# EAGLE library part PREC070F03X2R90 (library con-pinheader-precision)
female precision header
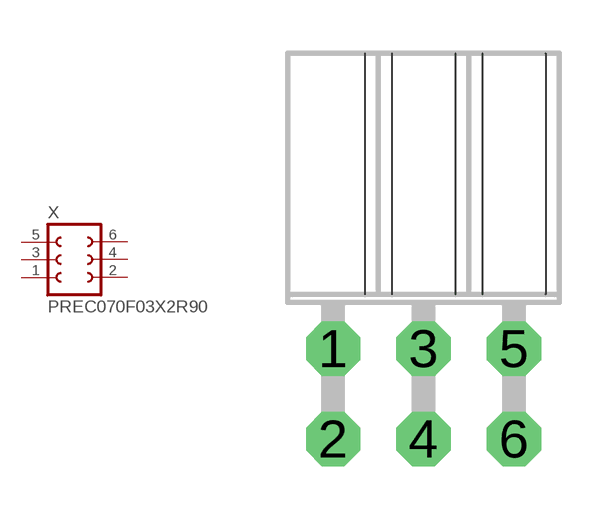
[diagram p16: symbol with the pads of PREC070F03X2R90; footprint PREC070F03X2R90]

Designator prefix X

## PREC070F03X2R90  [PREC070F03X2R90]
1  1  pas
2  2  pas
3  3  pas
4  4  pas
5  5  pas
6  6  pas

## Footprint PREC070F03X2R90 (pad centres in mm)
female precision header
drill 1.016 octagon: 1 -2.54,1.27; 2 -2.54,-1.27; 3 0,1.27; 4 0,-1.27; 5 2.54,1.27; 6 2.54,-1.27